# EAGLE library part 10104111-0001LF (library USB)
USB Connectors 5P Quick Connect MicroUSB TypeAB Rcpt Source: Datasheet <https://cdn.amphenol-icc.com/media/wysiwyg/files/drawing/10104111.pdf>
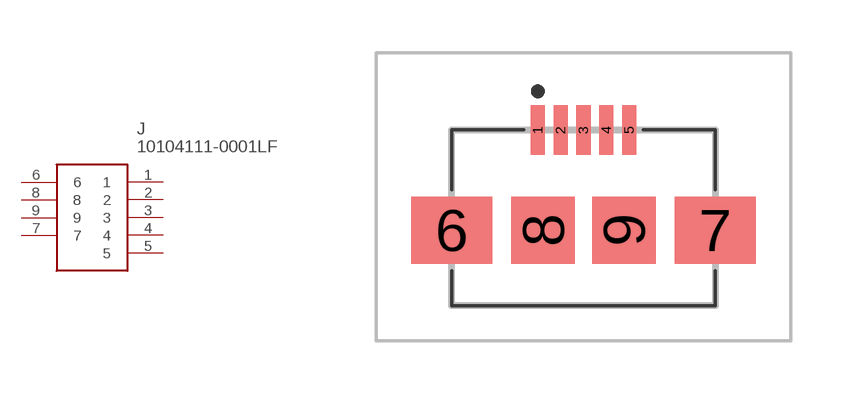
[diagram p0: symbol with the pads of 101041110001LF; footprint 101041110001LF]

Designator prefix J

## 10104111-0001LF (Allied_Number: 70236825; Allied_Price-Stock: https://www.alliedelec.com/amphenolfci-10104111-0001lf/70236825/; Description: USB Connectors 5P Quick Connect MicroUSB TypeAB Rcpt; Height: 3.07mm; Manufacturer_Name: Amphenol; Manufacturer_Part_Number: 10104111-0001LF; Mouser_Part_Number: 649-10104111-0001LF; Mouser_Price-Stock: https://www.mouser.com/Search/Refine.aspx?Keyword=649-10104111-0001LF; RS_Part_Number: 7142353; RS_Price-Stock: http://uk.rs-online.com/web/p/products/7142353)  [101041110001LF]
1  1
2  2
3  3
4  4
5  5
6  6
7  7
8  8
9  9

## Footprint 101041110001LF (pad centres in mm)
10104111-0001LF-2
smd 0.4 x 1.4: 1 -1.3,5; 2 -0.65,5; 3 0,5; 4 0.65,5; 5 1.3,5
smd 2.3 x 1.9: 6 -3.75,2.15; 7 3.75,2.15
smd 1.8 x 1.9: 8 -1.15,2.15; 9 1.15,2.15